# Altium footprint library eBug2014-Parallella-Carrier-H.PcbLib: 11 footprints
Each footprint in its own frame and in the unit in brackets; x right, y up, seen from the top. Pads: shape width x height; smd on the part's side, far side on the other; paste and mask are expansions set on the pad; w line width, h text height; cw(c..) or ccw(c..) is an arc to the next point about the centre after c.
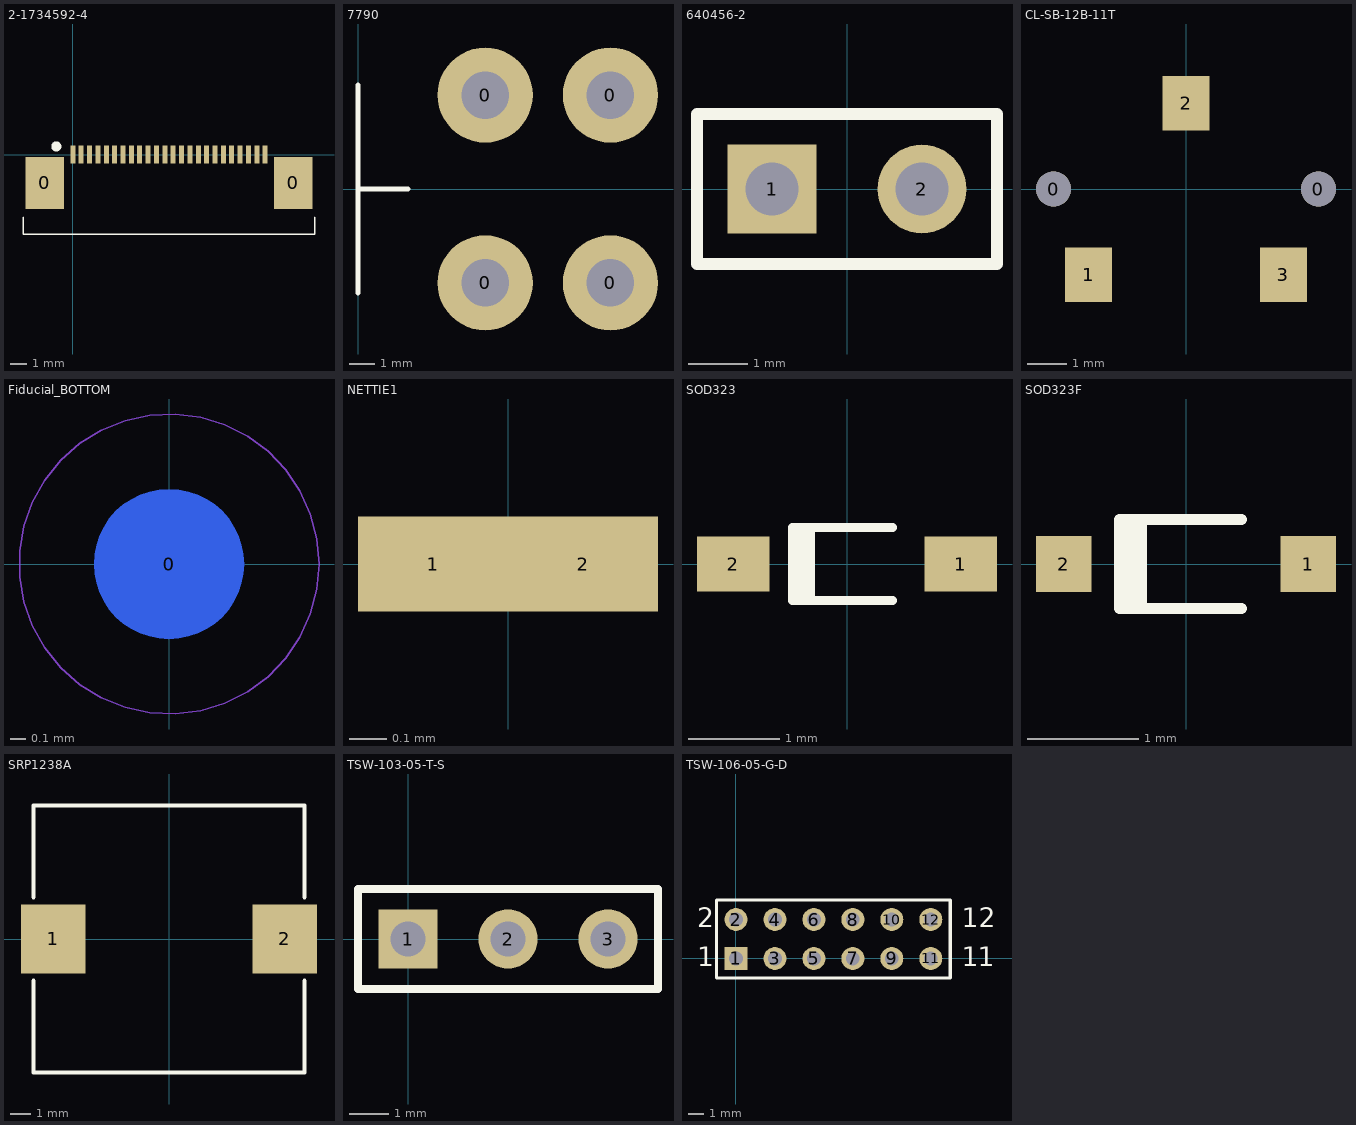
[diagram p0: the footprints below, top view; thin cyan lines are the x and y axes]

## 2-1734592-4 [mm]
pads (26):
  rect 2.3x3.1 smd: 0(-1.67,-1.7) 0(13.17,-1.7)
  rect 0.3x1.1 smd: 1(0,0) 2(0.5,0) 3(1,0) 4(1.5,0) 5(2,0) 6(2.5,0) 7(3,0) 8(3.5,0) 9(4,0) 10(4.5,0) 11(5,0) 12(5.5,0) 13(6,0) 14(6.5,0) 15(7,0) 16(7.5,0) 17(8,0) 18(8.5,0) 19(9,0) 20(9.5,0) 21(10,0) 22(10.5,0) 23(11,0) 24(11.5,0)
Top Overlay:
  circle w0.3: c-0.99,0.49 r0.15
  lines w0.1: -2.965,-3.76 -2.965,-4.76 14.465,-4.76 14.465,-3.76
3D body "c-2-1734592-4-c-3d.stp": height 2.06, standoff 0.01, extent -2.965,-4.76 14.465,0.35

## 7790 [mm]
pads (4):
  round 3.8 hole 1.9: 0(5.08,-3.75) 0(5.08,3.75) 0(10.08,-3.75) 0(10.08,3.75)
Top Overlay:
  lines w0.2: 0,-4.15 0,4.15 ; 0,0 2,0
3D body "keystone-PN7790.STEP": height 7.92, standoff -5.08, extent 0,-4.825 11.509,4.825

## 640456-2 [mm]
pads (2):
  rect 1.5x1.5 hole 0.9: 1(-1.27,0)
  round 1.5 hole 0.9: 2(1.27,0)
Top Overlay:
  lines w0.2: -2.54,-1.27 2.54,-1.27 2.54,1.27 -2.54,1.27 -2.54,-1.27
3D body "c-640456-2-aa-3d.stp": height 10.05, standoff -3.54, extent -2.54,-3.175 2.54,2.667

## CL-SB-12B-11T [mm]
pads (5):
  round 0.9 hole 0.9 paste+0 mask+0: 0(-3.4,0) 0(3.4,0)
  rect 1.2x1.4 smd: 1(-2.5,-2.2) 2(0,2.2) 3(2.5,-2.2)
3D body "CL-SB-12B-11T.stp": height 3.21, standoff -1.09, extent -4.25,-3.75 4.25,2.5

## Fiducial_BOTTOM [mm]
pads (1):
  round 1 smd far side paste-10 mask+0.5: 0(0,0)
Bottom Layer keep-out:
  circle w0.01: c0,0 r1

## NETTIE1 [mm]
pads (2):
  rect 0.4x0.254 smd mask+0: 1(-0.2,0) 2(0.2,0)

## SOD323 [mm]
pads (2):
  rect 0.8x0.6 smd: 1(1.25,0) 2(-1.25,0)
Top Overlay:
  lines w0.1: -0.5,-0.4 -0.5,0.4 ; -0.4,-0.4 -0.4,0.4 ; 0.5,-0.4 -0.6,-0.4 -0.6,0.4 0.5,0.4
3D body: height 0.9, standoff 0, extent -0.85,-0.625 0.85,0.625

## SOD323F [mm]
pads (2):
  rect 0.5x0.5 smd: 1(1.1,0) 2(-1.1,0)
Top Overlay:
  lines w0.1: -0.5,-0.4 -0.5,0.4 ; -0.4,-0.4 -0.4,0.4 ; 0.5,-0.4 -0.6,-0.4 -0.6,0.4 0.5,0.4
3D body: height 0.8, standoff 0, extent -0.9,-0.675 0.9,0.675

## SRP1238A [mm]
pads (2):
  rect 3.1x3.3 smd: 1(-5.55,0) 2(5.55,0)
Top Overlay:
  lines w0.2: -6.5,-2 -6.5,-6.4 6.5,-6.4 6.5,-2 ; -6.5,2 -6.5,6.4 6.5,6.4 6.5,2
3D body: height 3.3, standoff 0, extent -6.35,-6.25 6.35,6.25

## TSW-103-05-T-S [mm]
pads (3):
  rect 1.5x1.5 hole 0.9: 1(0,0)
  round 1.5 hole 0.9: 2(2.54,0) 3(5.08,0)
Top Overlay:
  lines w0.2: -1.27,-1.27 -1.27,1.27 6.35,1.27 6.35,-1.27 -1.27,-1.27
3D body "TSW-103-05-T-S.stp": height 5.85, standoff -2.65, extent -1.397,-1.27 6.35,1.27

## TSW-106-05-G-D [mm]
pads (12):
  rect 1.5x1.5 hole 0.9: 1(0,0)
  round 1.5 hole 0.9: 2(0,2.54) 3(2.54,0) 4(2.54,2.54) 5(5.08,0) 6(5.08,2.54) 7(7.62,0) 8(7.62,2.54) 9(10.16,0) 10(10.16,2.54) 11(12.7,0) 12(12.7,2.54)
Top Overlay:
  lines w0.2: -1.27,-1.27 13.97,-1.27 13.97,3.81 -1.27,3.81 -1.27,-1.27
  text "12" at 14.732,2.032 h1.27
  text "1" at 15.748,-0.508 h1.27
  text "1" at 14.732,-0.508 h1.27
  text "1" at -2.54,-0.508 h1.27
  text "2" at -2.54,2.032 h1.27
3D body "TSW-106-05-G-D.stp": height 5.21, standoff -3.3, extent -1.27,-1.27 13.97,3.81